# Altium footprint library SM_IPC_R_2010.PcbLib: 1 footprints
Each footprint in its own frame and in the unit in brackets; x right, y up, seen from the top. Pads: shape width x height; smd on the part's side, far side on the other; paste and mask are expansions set on the pad; w line width, h text height; cw(c..) or ccw(c..) is an arc to the next point about the centre after c.
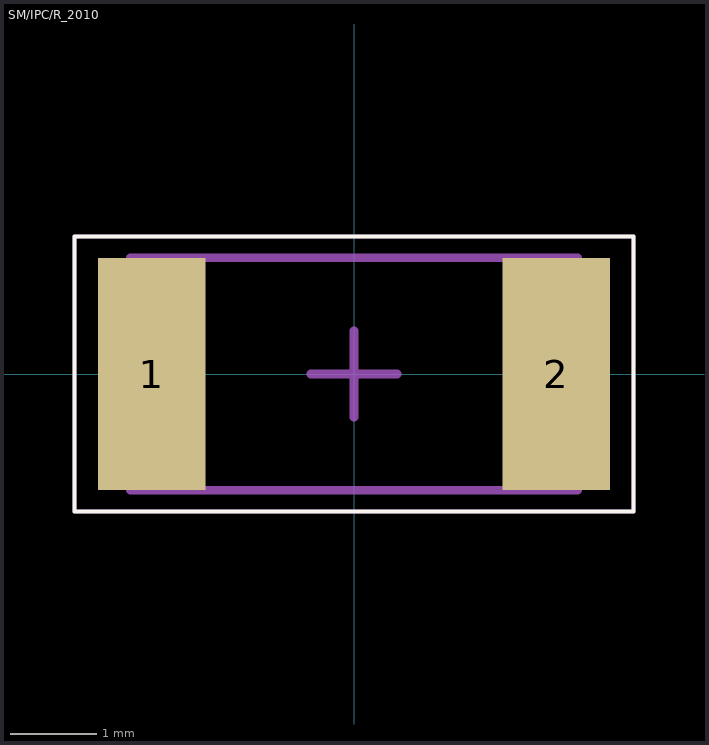
[diagram p0: the footprint, top view; thin cyan lines are the x and y axes]

## SM/IPC/R_2010 [mm]
pads (2):
  rect 1.25x2.7 smd: 1(-2.35,0) 2(2.35,0)
Top Overlay:
  lines w0.05: -3.25,-1.6 3.25,-1.6 3.25,1.6 -3.25,1.6 -3.25,-1.6
Mechanical 13:
  lines w0.1: -2.6,-1.35 2.6,-1.35 2.6,1.35 -2.6,1.35 -2.6,-1.35
Mechanical 15:
  lines w0.05: -3.25,-1.6 -3.25,1.6 3.25,1.6 3.25,-1.6 -3.25,-1.6
  lines w0.1: -0.5,0 0.5,0 ; 0,-0.5 0,0.5
3D body: height 0.71, standoff 0, extent 1.98,-1.35 2.6,1.35
3D body: height 0.71, standoff 0, extent -1.98,-1.35 1.98,1.35
3D body: height 0.71, standoff 0, extent -2.6,-1.35 -1.98,1.35